# Altium footprint library KF45C-9.5.PcbLib: 1 footprints
Each footprint in its own frame and in the unit in brackets; x right, y up, seen from the top. Pads: shape width x height; smd on the part's side, far side on the other; paste and mask are expansions set on the pad; w line width, h text height; cw(c..) or ccw(c..) is an arc to the next point about the centre after c.
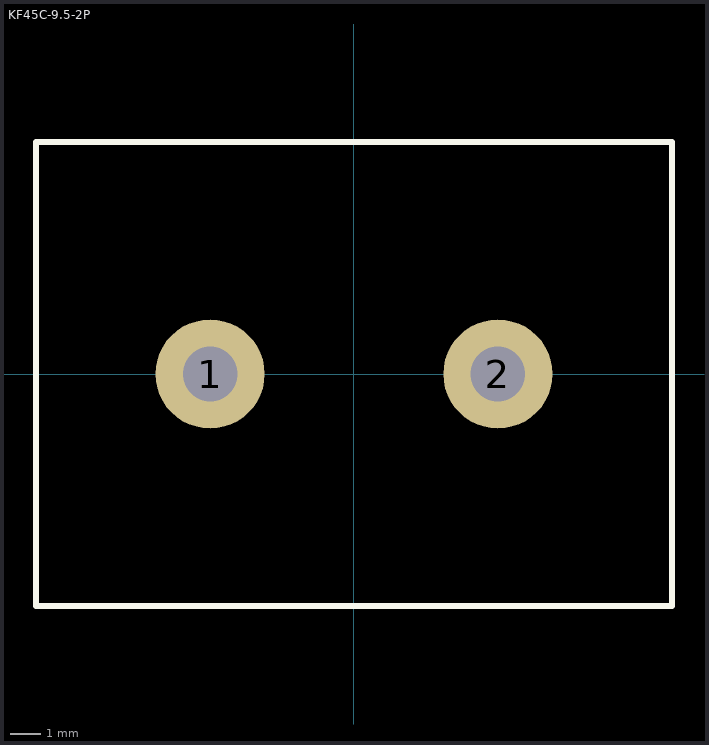
[diagram p0: the footprint, top view; thin cyan lines are the x and y axes]

## KF45C-9.5-2P [mm]
pads (2):
  round 3.6 hole 1.8: 1(-4.75,0) 2(4.75,0)
Top Overlay:
  lines w0.2: -10.5,-7.65 -10.5,7.65 10.5,7.65 10.5,-7.65 -10.5,-7.65
3D body "User Library-KF45_A.STEP": height 18, standoff -5.4, extent 0,-8.25 9.5,8.25
3D body "User Library-KF45_A.STEP": height 18, standoff -5.4, extent -9.5,-8.25 0,8.25